# EAGLE library part MKV30F128VLF10 (library 00 Freescale Kinetis MKV30F128Vxx10P)
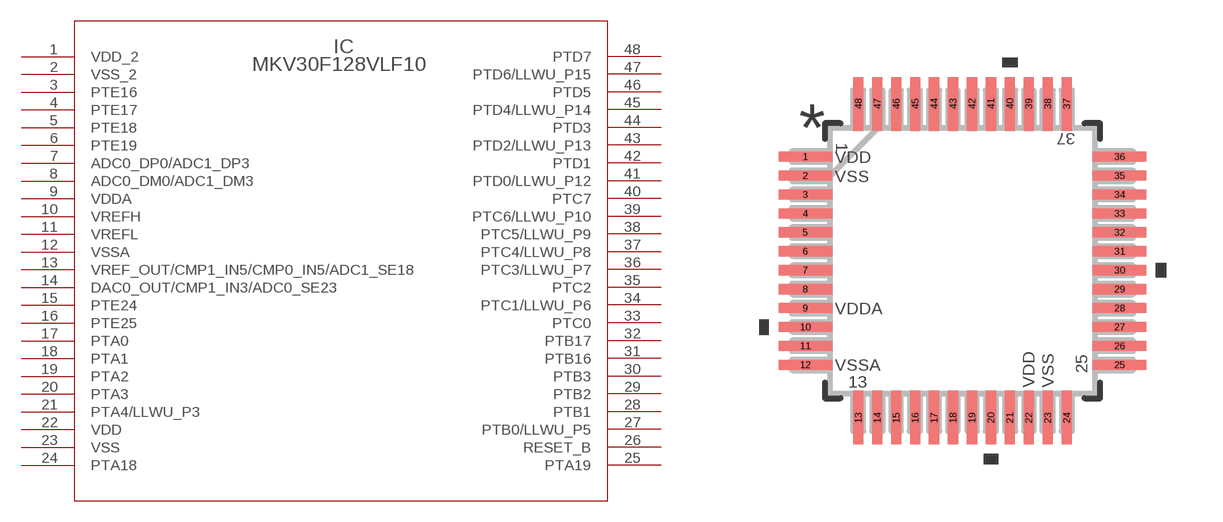
[diagram p0: symbol with the pads of LQFP-48_7X7X1.6; footprint LQFP-48_7X7X1.6]

Designator prefix IC

## MKV30F128VLF10 (CPU: ARM Cortex-M4F; FLASHKB: 128; MANUFACTURER_PART_NUMBER: mkv30f128vlf10; MAXFREQUENCY: 100; PINCOUNT: 48; SRAMKB: 16; VENDOR: FREESCALE)  [LQFP-48_7X7X1.6]
1  VDD_2  pwr
2  VSS_2  pwr
3  PTE16
4  PTE17
5  PTE18
6  PTE19
7  ADC0_DP0/ADC1_DP3
8  ADC0_DM0/ADC1_DM3
9  VDDA  pwr
10  VREFH  pwr
11  VREFL  pwr
12  VSSA  pwr
13  VREF_OUT/CMP1_IN5/CMP0_IN5/ADC1_SE18
14  DAC0_OUT/CMP1_IN3/ADC0_SE23
15  PTE24
16  PTE25
17  PTA0
18  PTA1
19  PTA2
20  PTA3
21  PTA4/LLWU_P3
22  VDD  pwr
23  VSS  pwr
24  PTA18
25  PTA19
26  RESET_B  pas
27  PTB0/LLWU_P5
28  PTB1
29  PTB2
30  PTB3
31  PTB16
32  PTB17
33  PTC0
34  PTC1/LLWU_P6
35  PTC2
36  PTC3/LLWU_P7
37  PTC4/LLWU_P8
38  PTC5/LLWU_P9
39  PTC6/LLWU_P10
40  PTC7
41  PTD0/LLWU_P12
42  PTD1
43  PTD2/LLWU_P13
44  PTD3
45  PTD4/LLWU_P14
46  PTD5
47  PTD6/LLWU_P15
48  PTD7

## Footprint LQFP-48_7X7X1.6 (pad centres in mm)
smd 1.411 x 0.27: 1 -4.15,2.75; 2 -4.15,2.25; 3 -4.15,1.75; 4 -4.15,1.25; 5 -4.15,0.75; 6 -4.15,0.25; 7 -4.15,-0.25; 8 -4.15,-0.75; 9 -4.15,-1.25; 10 -4.15,-1.75; 11 -4.15,-2.25; 12 -4.15,-2.75; 25 4.15,-2.75; 26 4.15,-2.25; 27 4.15,-1.75; 28 4.15,-1.25; 29 4.15,-0.75; 30 4.15,-0.25; 31 4.15,0.25; 32 4.15,0.75; 33 4.15,1.25; 34 4.15,1.75; 35 4.15,2.25; 36 4.15,2.75
smd 0.27 x 1.411: 13 -2.75,-4.15; 14 -2.25,-4.15; 15 -1.75,-4.15; 16 -1.25,-4.15; 17 -0.75,-4.15; 18 -0.25,-4.15; 19 0.25,-4.15; 20 0.75,-4.15; 21 1.25,-4.15; 22 1.75,-4.15; 23 2.25,-4.15; 24 2.75,-4.15; 37 2.75,4.15; 38 2.25,4.15; 39 1.75,4.15; 40 1.25,4.15; 41 0.75,4.15; 42 0.25,4.15; 43 -0.25,4.15; 44 -0.75,4.15; 45 -1.25,4.15; 46 -1.75,4.15; 47 -2.25,4.15; 48 -2.75,4.15